# Altium schematic symbol library SCH - MCU - TI - TI MSPM0G310X VSSOP-28 DGS28.SchLib: 1 symbol
Pins are listed as number, name and electrical type; pins without a type are passive.

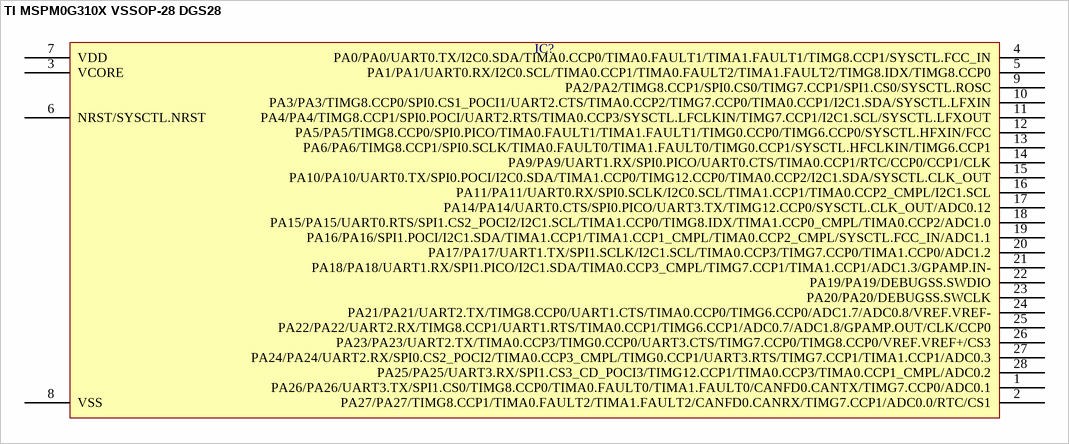
[diagram p0: symbol TI MSPM0G310X VSSOP-28 DGS28]

## TI MSPM0G310X VSSOP-28 DGS28
designator IC?  (value not drawn)
pins: 1 PA26/PA26/UART3.TX/SPI1.CS0/TIMG8.CCP0/TIMA0.FAULT0/TIMA1.FAULT0/CANFD0.CANTX/TIMG7.CCP0/ADC0.1, 2 PA27/PA27/TIMG8.CCP1/TIMA0.FAULT2/TIMA1.FAULT2/CANFD0.CANRX/TIMG7.CCP1/ADC0.0/RTC/CS1, 3 VCORE, 4 PA0/PA0/UART0.TX/I2C0.SDA/TIMA0.CCP0/TIMA0.FAULT1/TIMA1.FAULT1/TIMG8.CCP1/SYSCTL.FCC_IN, 5 PA1/PA1/UART0.RX/I2C0.SCL/TIMA0.CCP1/TIMA0.FAULT2/TIMA1.FAULT2/TIMG8.IDX/TIMG8.CCP0, 6 NRST/SYSCTL.NRST, 7 VDD, 8 VSS, 9 PA2/PA2/TIMG8.CCP1/SPI0.CS0/TIMG7.CCP1/SPI1.CS0/SYSCTL.ROSC, 10 PA3/PA3/TIMG8.CCP0/SPI0.CS1_POCI1/UART2.CTS/TIMA0.CCP2/TIMG7.CCP0/TIMA0.CCP1/I2C1.SDA/SYSCTL.LFXIN, 11 PA4/PA4/TIMG8.CCP1/SPI0.POCI/UART2.RTS/TIMA0.CCP3/SYSCTL.LFCLKIN/TIMG7.CCP1/I2C1.SCL/SYSCTL.LFXOUT, 12 PA5/PA5/TIMG8.CCP0/SPI0.PICO/TIMA0.FAULT1/TIMA1.FAULT1/TIMG0.CCP0/TIMG6.CCP0/SYSCTL.HFXIN/FCC, 13 PA6/PA6/TIMG8.CCP1/SPI0.SCLK/TIMA0.FAULT0/TIMA1.FAULT0/TIMG0.CCP1/SYSCTL.HFCLKIN/TIMG6.CCP1, 14 PA9/PA9/UART1.RX/SPI0.PICO/UART0.CTS/TIMA0.CCP1/RTC/CCP0/CCP1/CLK, 15 PA10/PA10/UART0.TX/SPI0.POCI/I2C0.SDA/TIMA1.CCP0/TIMG12.CCP0/TIMA0.CCP2/I2C1.SDA/SYSCTL.CLK_OUT, 16 PA11/PA11/UART0.RX/SPI0.SCLK/I2C0.SCL/TIMA1.CCP1/TIMA0.CCP2_CMPL/I2C1.SCL, 17 PA14/PA14/UART0.CTS/SPI0.PICO/UART3.TX/TIMG12.CCP0/SYSCTL.CLK_OUT/ADC0.12, 18 PA15/PA15/UART0.RTS/SPI1.CS2_POCI2/I2C1.SCL/TIMA1.CCP0/TIMG8.IDX/TIMA1.CCP0_CMPL/TIMA0.CCP2/ADC1.0, 19 PA16/PA16/SPI1.POCI/I2C1.SDA/TIMA1.CCP1/TIMA1.CCP1_CMPL/TIMA0.CCP2_CMPL/SYSCTL.FCC_IN/ADC1.1, 20 PA17/PA17/UART1.TX/SPI1.SCLK/I2C1.SCL/TIMA0.CCP3/TIMG7.CCP0/TIMA1.CCP0/ADC1.2, 21 PA18/PA18/UART1.RX/SPI1.PICO/I2C1.SDA/TIMA0.CCP3_CMPL/TIMG7.CCP1/TIMA1.CCP1/ADC1.3/GPAMP.IN-, 22 PA19/PA19/DEBUGSS.SWDIO, 23 PA20/PA20/DEBUGSS.SWCLK, 24 PA21/PA21/UART2.TX/TIMG8.CCP0/UART1.CTS/TIMA0.CCP0/TIMG6.CCP0/ADC1.7/ADC0.8/VREF.VREF-, 25 PA22/PA22/UART2.RX/TIMG8.CCP1/UART1.RTS/TIMA0.CCP1/TIMG6.CCP1/ADC0.7/ADC1.8/GPAMP.OUT/CLK/CCP0, 26 PA23/PA23/UART2.TX/TIMA0.CCP3/TIMG0.CCP0/UART3.CTS/TIMG7.CCP0/TIMG8.CCP0/VREF.VREF+/CS3, 27 PA24/PA24/UART2.RX/SPI0.CS2_POCI2/TIMA0.CCP3_CMPL/TIMG0.CCP1/UART3.RTS/TIMG7.CCP1/TIMA1.CCP1/ADC0.3, 28 PA25/PA25/UART3.RX/SPI1.CS3_CD_POCI3/TIMG12.CCP1/TIMA0.CCP3/TIMA0.CCP1_CMPL/ADC0.2